# EAGLE library part MC33794 (library mc33794)
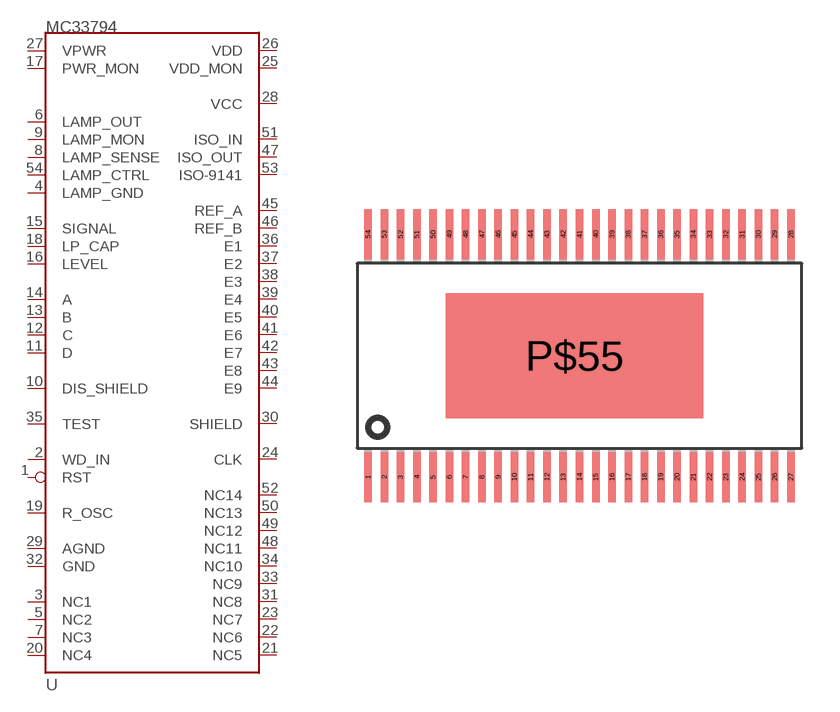
[diagram p0: symbol with the pads of SOICW54; footprint SOICW54]

Designator prefix -

## MC33794  [SOICW54]
1  RST
2  WD_IN
3  NC1
4  LAMP_GND
5  NC2
6  LAMP_OUT
7  NC3
8  LAMP_SENSE
9  LAMP_MON
10  DIS_SHIELD
11  D
12  C
13  B
14  A
15  SIGNAL
16  LEVEL
17  PWR_MON
18  LP_CAP
19  R_OSC
20  NC4
21  NC5
22  NC6
23  NC7
24  CLK
25  VDD_MON
26  VDD
27  VPWR
28  VCC
29  AGND
30  SHIELD
31  NC8
32  GND
33  NC9
34  NC10
35  TEST
36  E1
37  E2
38  E3
39  E4
40  E5
41  E6
42  E7
43  E8
44  E9
45  REF_A
46  REF_B
47  ISO_OUT
48  NC11
49  NC12
50  NC13
51  ISO_IN
52  NC14
53  ISO-9141
54  LAMP_CTRL

## Footprint SOICW54 (pad centres in mm)
smd 0.3 x 2: 1 0.5,-1.1; 2 1.15,-1.1; 3 1.8,-1.1; 4 2.45,-1.1; 5 3.1,-1.1; 6 3.75,-1.1; 7 4.4,-1.1; 8 5.05,-1.1; 9 5.7,-1.1; 10 6.35,-1.1; 11 7,-1.1; 12 7.65,-1.1; 13 8.3,-1.1; 14 8.95,-1.1; 15 9.6,-1.1; 16 10.25,-1.1; 17 10.9,-1.1; 18 11.55,-1.1; 19 12.2,-1.1; 20 12.85,-1.1; 21 13.5,-1.1; 22 14.15,-1.1; 23 14.8,-1.1; 24 15.45,-1.1; 25 16.1,-1.1; 26 16.75,-1.1; 27 17.4,-1.1; 28 17.4,8.6; 29 16.75,8.6; 30 16.1,8.6; 31 15.45,8.6; 32 14.8,8.6; 33 14.15,8.6; 34 13.5,8.6; 35 12.85,8.6; 36 12.2,8.6; 37 11.55,8.6; 38 10.9,8.6; 39 10.25,8.6; 40 9.6,8.6; 41 8.95,8.6; 42 8.3,8.6; 43 7.65,8.6; 44 7,8.6; 45 6.35,8.6; 46 5.7,8.6; 47 5.05,8.6; 48 4.4,8.6; 49 3.75,8.6; 50 3.1,8.6; 51 2.45,8.6; 52 1.8,8.6; 53 1.15,8.61; 54 0.5,8.6
smd 10.3 x 5: P$55 8.75,3.75